# Altium footprint library Capacitors.PcbLib: 62 footprints (part 3 of 4)
Each footprint in its own frame and in the unit in brackets; x right, y up, seen from the top. Pads: shape width x height; smd on the part's side, far side on the other; paste and mask are expansions set on the pad; w line width, h text height; cw(c..) or ccw(c..) is an arc to the next point about the centre after c.
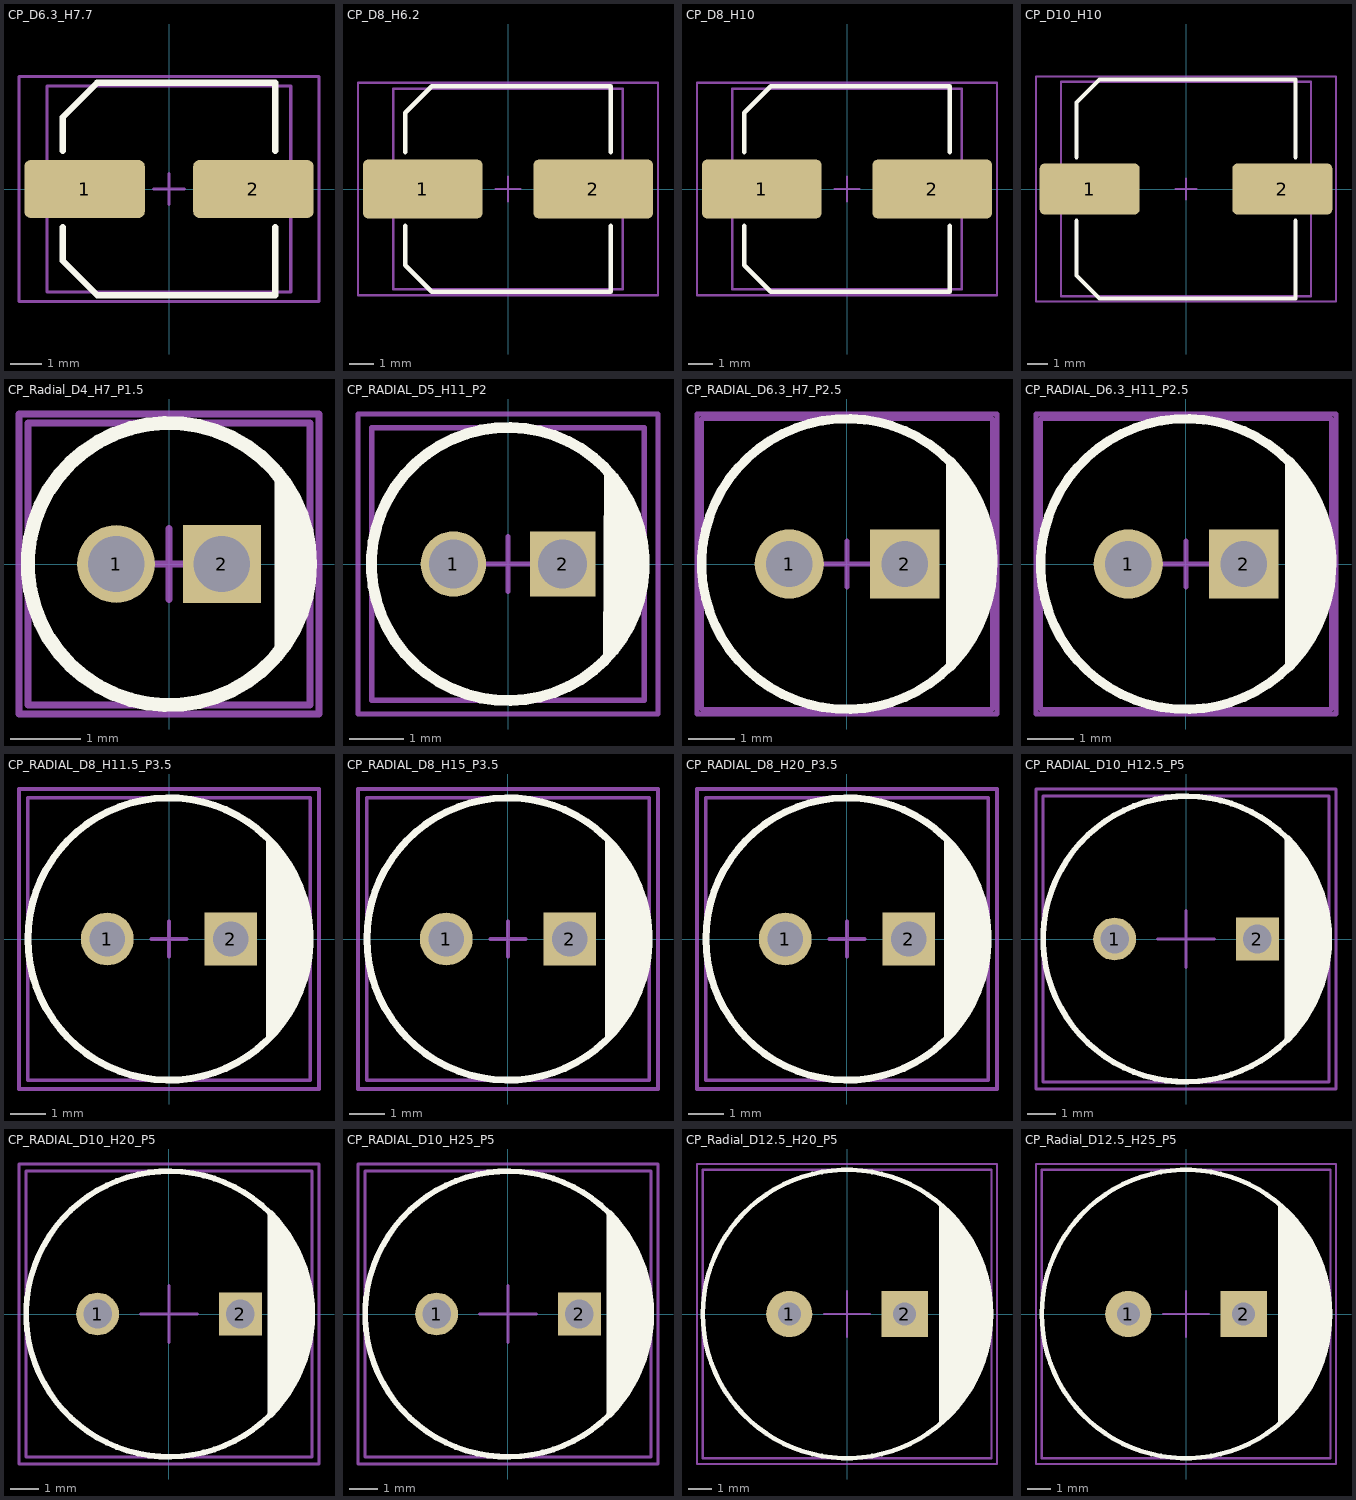
[diagram p2: the footprints below, top view; thin cyan lines are the x and y axes]

## CP_D6.3_H7.7 [mm]
height 7.7
pads (2):
  rrect20% 3.85x1.85 smd: 1(-2.7,0) 2(2.7,0)
Top Overlay:
  lines w0.2: -3.4,-1.225 -3.4,-2.3 -2.3,-3.4 3.4,-3.4 3.4,-1.225 ; -3.4,1.225 -3.4,2.3 -2.3,3.4 3.4,3.4 3.4,1.225
Mechanical 1:
  lines w0.1: -3.903,-3.301 3.896,-3.301 3.896,3.299 -3.903,3.299 -3.903,-3.301
Mechanical 15:
  lines w0.1: -0.5,0 0.5,0 ; 0,-0.5 0,0.5 ; -4.8,-3.6 4.8,-3.6 4.8,3.6 -4.8,3.6 -4.8,-3.6
3D body "CP_Elec_6.3x7.7.step": height 7.7, standoff 0, extent -3.903,-3.301 3.896,3.299

## CP_D8_H6.2 [mm]
height 6.2
pads (2):
  rrect20% 4.95x2.45 smd: 1(-3.525,0) 2(3.525,0)
Top Overlay:
  lines w0.2: -4.25,-1.525 -4.25,-3.15 -3.15,-4.25 4.25,-4.25 4.25,-1.525 ; -4.25,1.525 -4.25,3.15 -3.15,4.25 4.25,4.25 4.25,1.525
Mechanical 1:
  lines w0.1: -4.75,-4.15 4.75,-4.15 4.75,4.15 -4.75,4.15 -4.75,-4.15
Mechanical 15:
  lines w0.1: -0.5,0 0.5,0 ; 0,-0.5 0,0.5 ; -6.2,-4.4 6.2,-4.4 6.2,4.4 -6.2,4.4 -6.2,-4.4
3D body "CP_Elec_8x6.2.step": height 6.2, standoff 0, extent -4.75,-4.15 4.75,4.15

## CP_D8_H10 [mm]
height 10.2
pads (2):
  rrect20% 4.95x2.45 smd: 1(-3.525,0) 2(3.525,0)
Top Overlay:
  lines w0.2: -4.25,-1.525 -4.25,-3.15 -3.15,-4.25 4.25,-4.25 4.25,-1.525 ; -4.25,1.525 -4.25,3.15 -3.15,4.25 4.25,4.25 4.25,1.525
Mechanical 1:
  lines w0.1: -4.75,-4.15 4.75,-4.15 4.75,4.15 -4.75,4.15 -4.75,-4.15
Mechanical 15:
  lines w0.1: -0.5,0 0.5,0 ; 0,-0.5 0,0.5 ; -6.2,-4.4 6.2,-4.4 6.2,4.4 -6.2,4.4 -6.2,-4.4
3D body "CP_Elec_8x10.step": height 10, standoff 0, extent -4.75,-4.15 4.75,4.15

## CP_D10_H10 [mm]
height 10.2
pads (2):
  rrect20% 4.8x2.45 smd: 1(-4.625,0) 2(4.625,0)
Top Overlay:
  lines w0.2: -5.25,-1.525 -5.25,-4.15 -4.15,-5.25 5.25,-5.25 5.25,-1.525 ; -5.25,1.525 -5.25,4.15 -4.15,5.25 5.25,5.25 5.25,1.525
Mechanical 1:
  lines w0.1: -6,-5.15 -6,5.15 6,5.15 6,-5.15 -6,-5.15
Mechanical 15:
  lines w0.1: -0.5,0 0.5,0 ; 0,-0.5 0,0.5 ; -7.2,-5.4 -7.2,5.4 7.2,5.4 7.2,-5.4 -7.2,-5.4
3D body "CP_Elec_10x10.step": height 10, standoff 0, extent -6,-5.15 6,5.15

## CP_Radial_D4_H7_P1.5 [mm]
pads (2):
  round 1.1 hole 0.8: 1(-0.75,0)
  rect 1.1x1.1 hole 0.8: 2(0.75,0)
Top Overlay:
  circle w0.2: c0,0 r2
  region: 1.5,-1.3 1.5,1.3 1.511,1.31 1.629,1.175 1.811,0.867 1.936,0.531 2,0.179 2,-0.179 1.936,-0.531 1.811,-0.867 1.629,-1.175 1.511,-1.31
  lines w0.2: 1.511,-1.31 ccw(c0,0) 1.511,1.31
Mechanical 1:
  lines w0.1: -2,-1.999 2,-1.999 2,1.999 -2,1.999 -2,-1.999
Mechanical 15:
  lines w0.1: -0.5,0 0.5,0 ; 0,-0.5 0,0.5 ; -2.125,-2.125 -2.125,2.125 2.125,2.125 2.125,-2.125 -2.125,-2.125
3D body "CP_Radial_D4.00MM_H7.00MM_P1.50MM.STEP": height 7.04, standoff -2.86, extent -2,-1.999 2,1.999

## CP_RADIAL_D5_H11_P2 [mm]
pads (2):
  round 1.2 hole 0.9 unplated: 1(-1,0)
  rect 1.2x1.2 hole 0.9 unplated: 2(1,0)
Top Overlay:
  region: 1.768,1.768 1.942,1.594 2.215,1.184 2.404,0.729 2.5,0.246 2.5,-0.246 2.404,-0.729 2.215,-1.184 1.942,-1.594 1.768,-1.768 1.75,-1.75
  lines w0.2: 1.768,-1.768 ccw(c0,0) 1.768,1.768 ; 1.771,-1.771 cw(c0,0) 1.771,1.771
Mechanical 1:
  lines w0.1: -2.5,-2.498 2.5,-2.498 2.5,2.499 -2.5,2.499 -2.5,-2.498
Mechanical 15:
  lines w0.1: -0.5,0 0.5,0 ; 0,-0.5 0,0.5 ; -2.75,-2.75 2.75,-2.75 2.75,2.75 -2.75,2.75 -2.75,-2.75
3D body "CP_Radial_D5.00mm_H11.00mm_P2.00mm.STEP": height 11.1, standoff -2.8, extent -2.5,-2.498 2.5,2.498

## CP_RADIAL_D6.3_H7_P2.5 [mm]
pads (2):
  round 1.5 hole 1 unplated: 1(-1.25,0)
  rect 1.5x1.5 hole 1 unplated: 2(1.25,0)
Top Overlay:
  region: 2.15,-2.164 2.124,-2.195 2.13,-2.275 2.19,-2.329 2.27,-2.327 2.298,-2.298 2.411,-2.185 2.614,-1.939 2.791,-1.673 2.942,-1.391 3.064,-1.096 3.157,-0.791 3.219,-0.478 3.25,-0.16 3.25,0 3.25,0.16 3.219,0.478 3.157,0.791 3.064,1.096 2.942,1.391 2.791,1.673 2.614,1.939 2.411,2.185 2.298,2.298 2.27,2.327 2.19,2.329 2.13,2.275 2.124,2.195 2.15,2.164
  lines w0.2: 2.227,-2.227 ccw(c0,0) 2.227,2.227 ; 2.252,-2.202 cw(c0,0) 2.252,2.202
Mechanical 1:
  lines w0.1: -3.15,-3.15 -3.15,3.15 3.15,3.15 3.15,-3.15 -3.15,-3.15
Mechanical 15:
  lines w0.1: -0.5,0 0.5,0 ; 0,-0.5 0,0.5 ; -3.25,-3.25 -3.25,3.25 3.25,3.25 3.25,-3.25 -3.25,-3.25
3D body "CP_Radial_D6.30mm_H7.00mm_P2.50mm.STEP": height 7.1, standoff -2.8, extent -3.15,-3.148 3.15,3.148

## CP_RADIAL_D6.3_H11_P2.5 [mm]
pads (2):
  round 1.5 hole 1 unplated: 1(-1.25,0)
  rect 1.5x1.5 hole 1 unplated: 2(1.25,0)
Top Overlay:
  region: 2.15,-2.164 2.124,-2.195 2.13,-2.275 2.19,-2.329 2.27,-2.327 2.298,-2.298 2.411,-2.185 2.614,-1.939 2.791,-1.673 2.942,-1.391 3.064,-1.096 3.157,-0.791 3.219,-0.478 3.25,-0.16 3.25,0 3.25,0.16 3.219,0.478 3.157,0.791 3.064,1.096 2.942,1.391 2.791,1.673 2.614,1.939 2.411,2.185 2.298,2.298 2.27,2.327 2.19,2.329 2.13,2.275 2.124,2.195 2.15,2.164
  lines w0.2: 2.227,-2.227 ccw(c0,0) 2.227,2.227 ; 2.252,-2.202 cw(c0,0) 2.252,2.202
Mechanical 1:
  lines w0.1: -3.15,-3.15 -3.15,3.15 3.15,3.15 3.15,-3.15 -3.15,-3.15
Mechanical 15:
  lines w0.1: -0.5,0 0.5,0 ; 0,-0.5 0,0.5 ; -3.25,-3.25 -3.25,3.25 3.25,3.25 3.25,-3.25 -3.25,-3.25
3D body "CP_Radial_D6.30mm_H11.00mm_P2.50mm.STEP": height 11.1, standoff -2.8, extent -3.15,-3.148 3.15,3.148

## CP_RADIAL_D8_H11.5_P3.5 [mm]
pads (2):
  round 1.5 hole 1 unplated: 1(-1.75,0)
  rect 1.5x1.5 hole 1 unplated: 2(1.75,0)
Top Overlay:
  region: 2.752,2.902 2.949,2.716 3.289,2.293 3.568,1.829 3.782,1.331 3.927,0.808 4,0.271 4,-0.271 3.927,-0.808 3.782,-1.331 3.568,-1.829 3.289,-2.293 2.949,-2.716 2.752,-2.902 2.75,-2.9
  lines w0.2: 2.752,-2.902 ccw(c0,0) 2.752,2.902 ccw(c0,0) 2.752,-2.902
Mechanical 1:
  lines w0.1: -4,-3.999 -4,3.999 4,3.999 4,-3.999 -4,-3.999
Mechanical 15:
  lines w0.1: -0.5,0 0.5,0 ; 0,-0.5 0,0.5 ; -4.25,-4.25 -4.25,4.25 4.25,4.25 4.25,-4.25 -4.25,-4.25
3D body "CP_Radial_D8mm_H11.50mm_P3.50mm.STEP": height 11.6, standoff -2.8, extent -4,-3.999 4,3.999

## CP_RADIAL_D8_H15_P3.5 [mm]
pads (2):
  round 1.5 hole 1 unplated: 1(-1.75,0)
  rect 1.5x1.5 hole 1 unplated: 2(1.75,0)
Top Overlay:
  region: 2.752,2.902 2.949,2.716 3.289,2.293 3.568,1.829 3.782,1.331 3.927,0.808 4,0.271 4,-0.271 3.927,-0.808 3.782,-1.331 3.568,-1.829 3.289,-2.293 2.949,-2.716 2.752,-2.902 2.75,-2.9
  lines w0.2: 2.752,-2.902 ccw(c0,0) 2.752,2.902 ccw(c0,0) 2.752,-2.902
Mechanical 1:
  lines w0.1: -4,-3.999 -4,3.999 4,3.999 4,-3.999 -4,-3.999
Mechanical 15:
  lines w0.1: -0.5,0 0.5,0 ; 0,-0.5 0,0.5 ; -4.25,-4.25 -4.25,4.25 4.25,4.25 4.25,-4.25 -4.25,-4.25
3D body "CP_Radial_D8mm_H15.00mm_P3.50mm.STEP": height 15.1, standoff -2.8, extent -4,-3.999 4,3.999

## CP_RADIAL_D8_H20_P3.5 [mm]
pads (2):
  round 1.5 hole 1 unplated: 1(-1.75,0)
  rect 1.5x1.5 hole 1 unplated: 2(1.75,0)
Top Overlay:
  region: 2.752,2.902 2.949,2.716 3.289,2.293 3.568,1.829 3.782,1.331 3.927,0.808 4,0.271 4,-0.271 3.927,-0.808 3.782,-1.331 3.568,-1.829 3.289,-2.293 2.949,-2.716 2.752,-2.902 2.75,-2.9
  lines w0.2: 2.752,-2.902 ccw(c0,0) 2.752,2.902 ccw(c0,0) 2.752,-2.902
Mechanical 1:
  lines w0.1: -4,-3.999 -4,3.999 4,3.999 4,-3.999 -4,-3.999
Mechanical 15:
  lines w0.1: -0.5,0 0.5,0 ; 0,-0.5 0,0.5 ; -4.25,-4.25 -4.25,4.25 4.25,4.25 4.25,-4.25 -4.25,-4.25
3D body "CP_Radial_D8mm_H20.00mm_P3.50mm.STEP": height 20.1, standoff -2.8, extent -4,-3.999 4,3.999

## CP_RADIAL_D10_H12.5_P5 [mm]
pads (2):
  round 1.5 hole 1 unplated: 1(-2.5,0)
  rect 1.5x1.5 hole 1 unplated: 2(2.5,0)
Top Overlay:
  region: 3.607,3.607 3.585,3.628 3.525,3.64 3.469,3.617 3.435,3.566 3.435,3.536 3.435,3.529 3.437,3.515 3.441,3.502 3.446,3.489 3.45,3.484 3.45,-3.484 3.446,-3.489 3.441,-3.502 3.437,-3.515 3.435,-3.529 3.435,-3.536 3.435,-3.566 3.469,-3.617 3.525,-3.64 3.585,-3.628 3.607,-3.607 3.843,-3.37 4.25,-2.84 4.584,-2.261 4.84,-1.643 5.013,-0.997 5.1,-0.334 5.1,0.334 5.013,0.997 4.84,1.643 4.584,2.261 4.25,2.84 3.843,3.37
  lines w0.2: 3.536,-3.536 ccw(c0,0) 3.536,3.536 ccw(c0,0) 3.535,-3.535
Mechanical 1:
  lines w0.1: -5,-4.999 -5,5 5,4.999 5,-4.999 -5,-4.999 ; -5,-4.999 -5,-4.999
Mechanical 15:
  lines w0.1: -1,0 1,0 ; 0,-1 0,1 ; -5.25,-5.25 -5.25,5.25 5.25,5.25 5.25,-5.25 -5.25,-5.25
3D body "CP_Radial_D10.00mm_H12.50mm_P5mm.STEP": height 12.6, standoff -2.8, extent -5,-4.998 5,4.997

## CP_RADIAL_D10_H20_P5 [mm]
pads (2):
  round 1.5 hole 1 unplated: 1(-2.5,0)
  rect 1.5x1.5 hole 1 unplated: 2(2.5,0)
Top Overlay:
  region: 3.607,3.607 3.585,3.628 3.525,3.64 3.469,3.617 3.435,3.566 3.435,3.536 3.435,3.529 3.437,3.515 3.441,3.502 3.446,3.489 3.45,3.484 3.45,-3.484 3.446,-3.489 3.441,-3.502 3.437,-3.515 3.435,-3.529 3.435,-3.536 3.435,-3.566 3.469,-3.617 3.525,-3.64 3.585,-3.628 3.607,-3.607 3.843,-3.37 4.25,-2.84 4.584,-2.261 4.84,-1.643 5.013,-0.997 5.1,-0.334 5.1,0.334 5.013,0.997 4.84,1.643 4.584,2.261 4.25,2.84 3.843,3.37
  lines w0.2: 3.536,-3.535 cw(c0,0) 3.536,3.536 cw(c0,0) 3.536,-3.536
Mechanical 1:
  lines w0.1: -5,-4.999 5,-4.999 5,4.999 -5,4.999 -5,-4.999 ; -5,-4.999 -5,-4.999
Mechanical 15:
  lines w0.1: -1,0 1,0 ; 0,-1 0,1 ; -5.25,-5.25 5.25,-5.25 5.25,5.25 -5.25,5.25 -5.25,-5.25
3D body "CP_Radial_D10.00mm_H20.00mm_P5mm.STEP": height 20.1, standoff -2.8, extent -5,-4.998 5,4.997

## CP_RADIAL_D10_H25_P5 [mm]
pads (2):
  round 1.5 hole 1 unplated: 1(-2.5,0)
  rect 1.5x1.5 hole 1 unplated: 2(2.5,0)
Top Overlay:
  region: 3.607,3.607 3.585,3.628 3.525,3.64 3.469,3.617 3.435,3.566 3.435,3.536 3.435,3.529 3.437,3.515 3.441,3.502 3.446,3.489 3.45,3.484 3.45,-3.484 3.446,-3.489 3.441,-3.502 3.437,-3.515 3.435,-3.529 3.435,-3.536 3.435,-3.566 3.469,-3.617 3.525,-3.64 3.585,-3.628 3.607,-3.607 3.843,-3.37 4.25,-2.84 4.584,-2.261 4.84,-1.643 5.013,-0.997 5.1,-0.334 5.1,0.334 5.013,0.997 4.84,1.643 4.584,2.261 4.25,2.84 3.843,3.37
  lines w0.2: 3.536,-3.536 ccw(c0,0) 3.536,3.536 ccw(c0,0) 3.536,-3.535
Mechanical 1:
  lines w0.1: -5,-4.999 -5,5 5,4.999 5,-4.999 -5,-4.999 ; -5,-4.999 -5,-4.999
Mechanical 15:
  lines w0.1: -1,0 1,0 ; 0,-1 0,1 ; -5.25,-5.25 -5.25,5.25 5.25,5.25 5.25,-5.25 -5.25,-5.25
3D body "CP_Radial_D10.00mm_H25.00mm_P5mm.STEP": height 25.1, standoff -2.8, extent -5,-4.998 5,4.997

## CP_Radial_D12.5_H20_P5 [mm]
pads (2):
  round 2 hole 1: 1(-2.5,0)
  rect 2x2 hole 1: 2(2.5,0)
Top Overlay:
  region: 4,-4.8 4,4.8 4.001,4.801 4.264,4.582 4.74,4.089 5.158,3.546 5.515,2.961 5.805,2.341 6.026,1.692 6.175,1.024 6.25,0.343 6.25,-0.343 6.175,-1.024 6.026,-1.692 5.805,-2.341 5.515,-2.961 5.158,-3.546 4.74,-4.089 4.264,-4.582 4.001,-4.801
  lines w0.2: 4.001,-4.801 ccw(c0,0) 4.001,4.801 ; 6.25,0 ccw(c0,0) 6.25,0
Keep-Out Layer:
  region: 1.9,0.7
Mechanical 1:
  lines w0.1: -6.25,-6.25 -6.25,6.25 6.26,6.25 6.26,-6.25 -6.25,-6.25
Mechanical 15:
  lines w0.1: -1,0 1,0 ; 0,-1 0,1 ; -6.5,-6.5 -6.5,6.5 6.5,6.5 6.5,-6.5 -6.5,-6.5
3D body "CP_Radial_D12.50mm_H20.00mm_P5mm.STEP": height 20.1, standoff -2.8, extent -6.25,-6.252 6.251,6.249

## CP_Radial_D12.5_H25_P5 [mm]
pads (2):
  round 2 hole 1: 1(-2.5,0)
  rect 2x2 hole 1: 2(2.5,0)
Top Overlay:
  region: 4,-4.8 4,4.8 4.001,4.801 4.264,4.582 4.74,4.089 5.158,3.546 5.515,2.961 5.805,2.341 6.026,1.692 6.175,1.024 6.25,0.343 6.25,-0.343 6.175,-1.024 6.026,-1.692 5.805,-2.341 5.515,-2.961 5.158,-3.546 4.74,-4.089 4.264,-4.582 4.001,-4.801
  lines w0.2: 4.001,-4.801 ccw(c0,0) 4.001,4.801 ; 6.25,0 ccw(c0,0) 6.25,0
Keep-Out Layer:
  region: 1.9,0.7
Mechanical 1:
  lines w0.1: -6.25,-6.25 6.26,-6.25 6.26,6.25 -6.25,6.25 -6.25,-6.25
Mechanical 15:
  lines w0.1: -1,0 1,0 ; 0,-1 0,1 ; -6.5,-6.5 6.5,-6.5 6.5,6.5 -6.5,6.5 -6.5,-6.5
3D body "CP_Radial_D12.50mm_H25.00mm_P5mm.STEP": height 25.1, standoff -2.8, extent -6.3,-6.3 6.3,6.297